# Altium footprint library con-3m.PCBLIB: 62 footprints (part 5 of 5)
Each footprint in its own frame and in the unit in brackets; x right, y up, seen from the top. Pads: shape width x height; smd on the part's side, far side on the other; paste and mask are expansions set on the pad; w line width, h text height; cw(c..) or ccw(c..) is an arc to the next point about the centre after c.
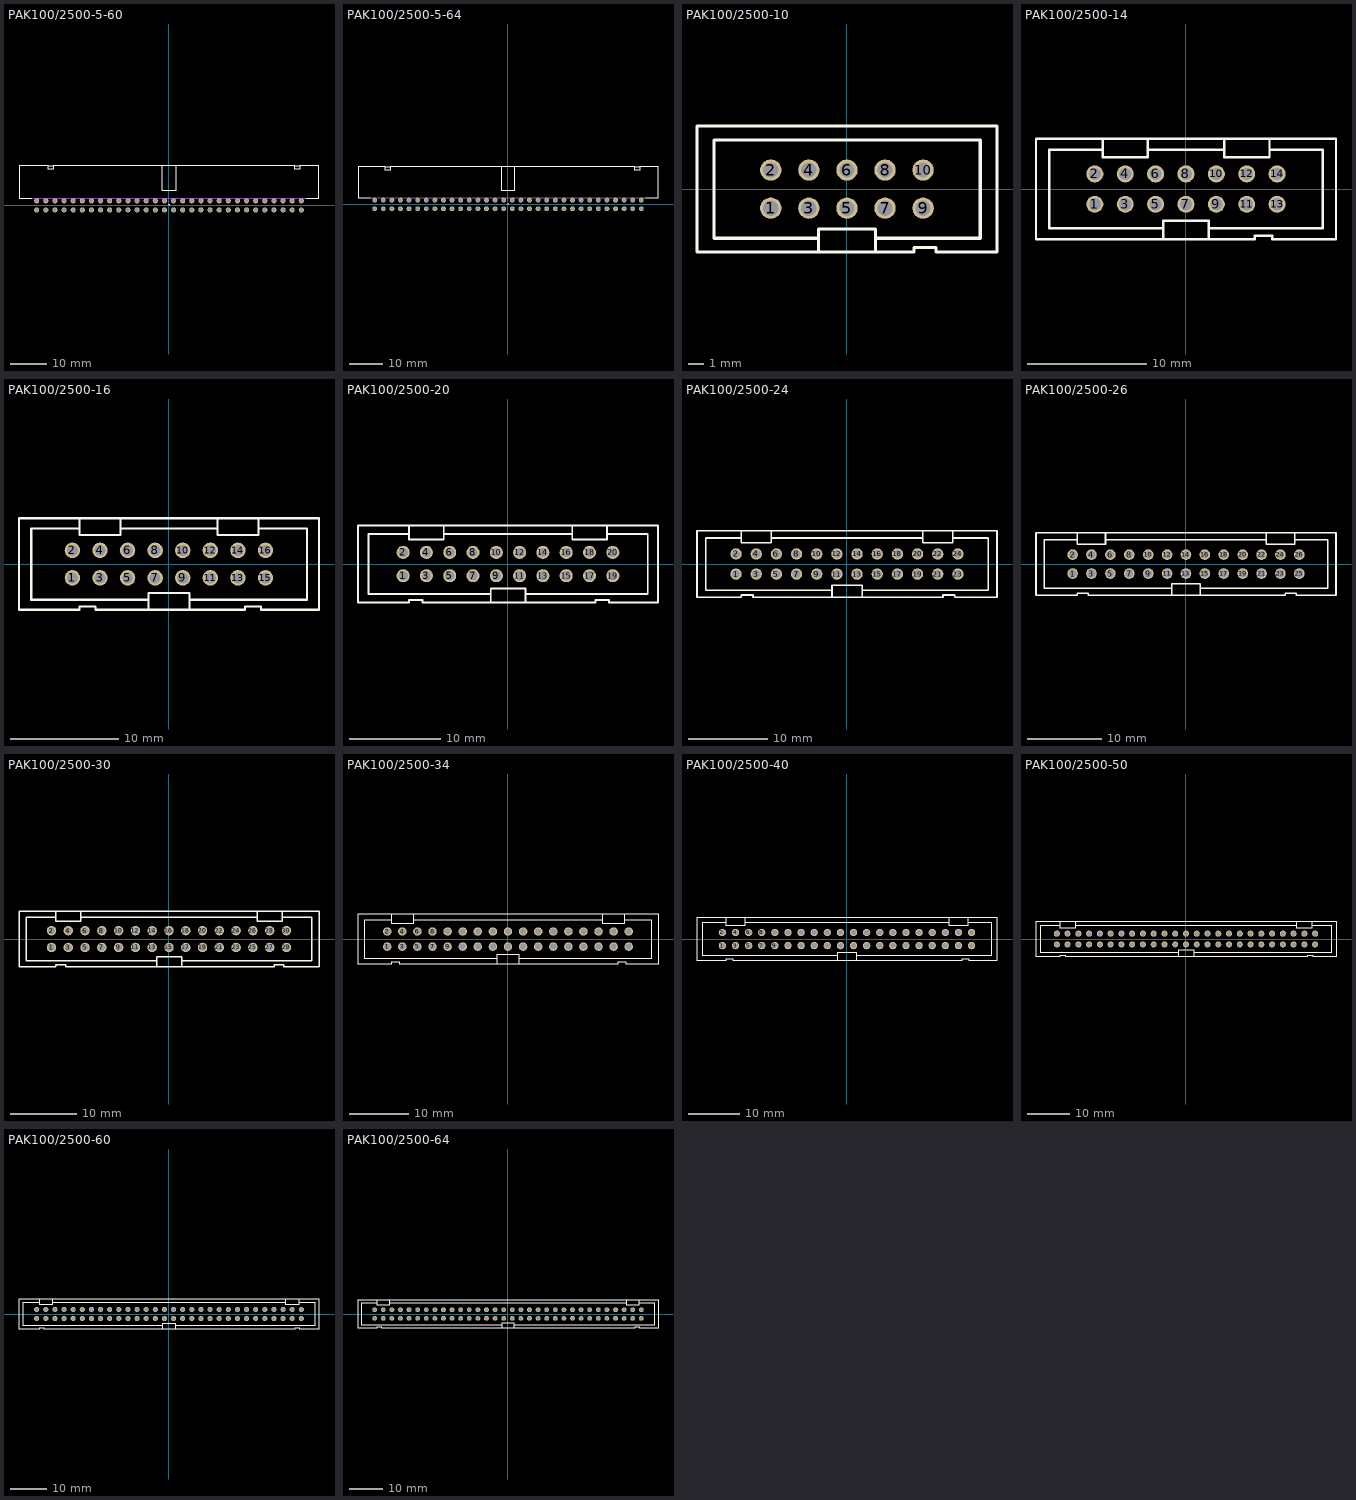
[diagram p4: the footprints below, top view; thin cyan lines are the x and y axes]

## PAK100/2500-5-60 [mil]
pads (60):
  round 56 hole 40: 1(-1450,-50) 2(-1450,50) 3(-1350,-50) 4(-1350,50) 5(-1250,-50) 6(-1250,50) 7(-1150,-50) 8(-1150,50) 9(-1050,-50) 10(-1050,50) 11(-950,-50) 12(-950,50) 13(-850,-50) 14(-850,50) 15(-750,-50) 16(-750,50) 17(-650,-50) 18(-650,50) 19(-550,-50) 20(-550,50) 21(-450,-50) 22(-450,50) 23(-350,-50) 24(-350,50) 25(-250,-50) 26(-250,50) 27(-150,-50) 28(-150,50) 29(-50,-50) 30(-50,50) 31(50,-50) 32(50,50) 33(150,-50) 34(150,50) 35(250,-50) 36(250,50) 37(350,-50) 38(350,50) 39(450,-50) 40(450,50) 41(550,-50) 42(550,50) 43(650,-50) 44(650,50) 45(750,-50) 46(750,50) 47(850,-50) 48(850,50) 49(950,-50) 50(950,50) 51(1050,-50) 52(1050,50) 53(1150,-50) 54(1150,50) 55(1250,-50) 56(1250,50) 57(1350,-50) 58(1350,50) 59(1450,-50) 60(1450,50)
Top Overlay:
  region: 0,0 10,0 10,10 0,10
  lines w8: -1504.17,74 -1643.7,74 -1643.7,437 -1324.45,437 ; 1504,74 1644,74 1644,437 1434,437 ; -1324.45,437 -1266.22,437 ; -1324.45,437 -1324.45,398 -1266.22,398 -1266.22,437 ; -1266.22,437 -74.13,437 ; -74.13,437 -74.13,158 75,158 75,437 ; -74.13,437 75,437 ; 75,437 1376,437 ; 1376,437 1434,437 ; 1376,437 1376,398 1434,398 1434,437
Mechanical 16:
  lines w8: -1504.02,74 1504,74

## PAK100/2500-5-64 [mil]
pads (64):
  round 56 hole 40: 1(-1550,-50) 2(-1550,50) 3(-1450,-50) 4(-1450,50) 5(-1350,-50) 6(-1350,50) 7(-1250,-50) 8(-1250,50) 9(-1150,-50) 10(-1150,50) 11(-1050,-50) 12(-1050,50) 13(-950,-50) 14(-950,50) 15(-850,-50) 16(-850,50) 17(-750,-50) 18(-750,50) 19(-650,-50) 20(-650,50) 21(-550,-50) 22(-550,50) 23(-450,-50) 24(-450,50) 25(-350,-50) 26(-350,50) 27(-250,-50) 28(-250,50) 29(-150,-50) 30(-150,50) 31(-50,-50) 32(-50,50) 33(50,-50) 34(50,50) 35(150,-50) 36(150,50) 37(250,-50) 38(250,50) 39(350,-50) 40(350,50) 41(450,-50) 42(450,50) 43(550,-50) 44(550,50) 45(650,-50) 46(650,50) 47(750,-50) 48(750,50) 49(850,-50) 50(850,50) 51(950,-50) 52(950,50) 53(1050,-50) 54(1050,50) 55(1150,-50) 56(1150,50) 57(1250,-50) 58(1250,50) 59(1350,-50) 60(1350,50) 61(1450,-50) 62(1450,50) 63(1550,-50) 64(1550,50)
Top Overlay:
  region: 0,0 10,0 10,10 0,10
  lines w8: -1604.17,74 -1743.7,74 -1743.7,437 -1424.45,437 ; 1604,74 1744,74 1744,437 1534,437 ; -1424.45,437 -1366.22,437 ; -1424.45,437 -1424.45,398 -1366.22,398 -1366.22,437 ; -1366.22,437 -74.13,437 ; -74.13,437 -74.13,158 75,158 75,437 ; -74.13,437 75,437 ; 75,437 1476,437 ; 1476,437 1534,437 ; 1476,437 1476,398 1534,398 1534,437
Mechanical 16:
  lines w8: -1604.02,74 1604,74

## PAK100/2500-10 [mil]
pads (10):
  round 56 hole 40: 1(-200,-50) 2(-200,50) 3(-100,-50) 4(-100,50) 5(0,-50) 6(0,50) 7(100,-50) 8(100,50) 9(200,-50) 10(200,50)
Top Overlay:
  lines w8: -74.13,-128.94 -349.41,-128.94 -349.41,129 350,129 350,-128.94 75,-128.94 ; -74.13,-165.35 -74.13,-104.33 75,-104.33 75,-165.35 ; -74.13,-165.35 75,-165.35 ; -74.13,-165.35 -393.7,-165.35 -393.7,166 394,166 394,-165.35 234,-165.35 234,-153.54 176,-153.54 176,-165.35 75,-165.35

## PAK100/2500-14 [mil]
pads (14):
  round 56 hole 40: 1(-300,-50) 2(-300,50) 3(-200,-50) 4(-200,50) 5(-100,-50) 6(-100,50) 7(0,-50) 8(0,50) 9(100,-50) 10(100,50) 11(200,-50) 12(200,50) 13(300,-50) 14(300,50)
Top Overlay:
  lines w8: -274.41,129 -449.41,129 -449.41,-128.94 -74.13,-128.94 ; -125.79,129 126,129 ; 75,-128.94 450,-128.94 450,129 275,129 ; -274.13,166 -493.7,166 -493.7,-165.35 -74.13,-165.35 ; -274.13,166 -125.87,166 ; -274.13,166 -274.13,105 -125.87,105 -125.87,166 ; -125.87,166 126,166 ; -74.13,-165.35 -74.13,-104.33 75,-104.33 75,-165.35 ; -74.13,-165.35 75,-165.35 ; 75,-165.35 226,-165.35 226,-153.54 284,-153.54 284,-165.35 494,-165.35 494,166 275,166 ; 126,166 275,166 ; 126,166 126,105 275,105 275,166

## PAK100/2500-16 [mil]
pads (16):
  round 56 hole 40: 1(-350,-50) 2(-350,50) 3(-250,-50) 4(-250,50) 5(-150,-50) 6(-150,50) 7(-50,-50) 8(-50,50) 9(50,-50) 10(50,50) 11(150,-50) 12(150,50) 13(250,-50) 14(250,50) 15(350,-50) 16(350,50)
Top Overlay:
  lines w8: -324.41,129 -499.41,129 -499.41,-128.94 -74.13,-128.94 ; -175.79,129 176,129 ; 75,-128.94 500,-128.94 500,129 325,129 ; -324.13,166 -543.7,166 -543.7,-165.35 -324.45,-165.35 -324.45,-153.54 -266.22,-153.54 -266.22,-165.35 -74.13,-165.35 ; -324.13,166 -175.87,166 ; -324.13,166 -324.13,105 -175.87,105 -175.87,166 ; -175.87,166 176,166 ; -74.13,-165.35 -74.13,-104.33 75,-104.33 75,-165.35 ; -74.13,-165.35 75,-165.35 ; 75,-165.35 276,-165.35 276,-153.54 334,-153.54 334,-165.35 544,-165.35 544,166 325,166 ; 176,166 325,166 ; 176,166 176,105 325,105 325,166

## PAK100/2500-20 [mil]
pads (20):
  round 56 hole 40: 1(-450,-50) 2(-450,50) 3(-350,-50) 4(-350,50) 5(-250,-50) 6(-250,50) 7(-150,-50) 8(-150,50) 9(-50,-50) 10(-50,50) 11(50,-50) 12(50,50) 13(150,-50) 14(150,50) 15(250,-50) 16(250,50) 17(350,-50) 18(350,50) 19(450,-50) 20(450,50)
Top Overlay:
  lines w8: -424.41,129 -599.41,129 -599.41,-128.94 -74.13,-128.94 ; -275.79,129 276,129 ; 75,-128.94 600,-128.94 600,129 425,129 ; -424.13,166 -643.7,166 -643.7,-165.35 -424.45,-165.35 -424.45,-153.54 -366.22,-153.54 -366.22,-165.35 -74.13,-165.35 ; -424.13,166 -275.87,166 ; -424.13,166 -424.13,105 -275.87,105 -275.87,166 ; -275.87,166 276,166 ; -74.13,-165.35 -74.13,-104.33 75,-104.33 75,-165.35 ; -74.13,-165.35 75,-165.35 ; 75,-165.35 376,-165.35 376,-153.54 434,-153.54 434,-165.35 644,-165.35 644,166 425,166 ; 276,166 425,166 ; 276,166 276,105 425,105 425,166

## PAK100/2500-24 [mil]
pads (24):
  round 56 hole 40: 1(-550,-50) 2(-550,50) 3(-450,-50) 4(-450,50) 5(-350,-50) 6(-350,50) 7(-250,-50) 8(-250,50) 9(-150,-50) 10(-150,50) 11(-50,-50) 12(-50,50) 13(50,-50) 14(50,50) 15(150,-50) 16(150,50) 17(250,-50) 18(250,50) 19(350,-50) 20(350,50) 21(450,-50) 22(450,50) 23(550,-50) 24(550,50)
Top Overlay:
  lines w8: -524.41,129 -699.41,129 -699.41,-128.94 -74.13,-128.94 ; -375.79,129 376,129 ; 75,-128.94 700,-128.94 700,129 525,129 ; -524.13,166 -743.7,166 -743.7,-165.35 -524.45,-165.35 -524.45,-153.54 -466.22,-153.54 -466.22,-165.35 -74.13,-165.35 ; -524.13,166 -375.87,166 ; -524.13,166 -524.13,105 -375.87,105 -375.87,166 ; -375.87,166 376,166 ; -74.13,-165.35 -74.13,-104.33 75,-104.33 75,-165.35 ; -74.13,-165.35 75,-165.35 ; 75,-165.35 476,-165.35 476,-153.54 534,-153.54 534,-165.35 744,-165.35 744,166 525,166 ; 376,166 525,166 ; 376,166 376,105 525,105 525,166

## PAK100/2500-26 [mil]
pads (26):
  round 56 hole 40: 1(-600,-50) 2(-600,50) 3(-500,-50) 4(-500,50) 5(-400,-50) 6(-400,50) 7(-300,-50) 8(-300,50) 9(-200,-50) 10(-200,50) 11(-100,-50) 12(-100,50) 13(0,-50) 14(0,50) 15(100,-50) 16(100,50) 17(200,-50) 18(200,50) 19(300,-50) 20(300,50) 21(400,-50) 22(400,50) 23(500,-50) 24(500,50) 25(600,-50) 26(600,50)
Top Overlay:
  lines w8: -574.41,129 -749.41,129 -749.41,-128.94 -74.13,-128.94 ; -425.79,129 426,129 ; 75,-128.94 750,-128.94 750,129 575,129 ; -574.13,166 -793.7,166 -793.7,-165.35 -574.45,-165.35 -574.45,-153.54 -516.22,-153.54 -516.22,-165.35 -74.13,-165.35 ; -574.13,166 -425.87,166 ; -574.13,166 -574.13,105 -425.87,105 -425.87,166 ; -425.87,166 426,166 ; -74.13,-165.35 -74.13,-104.33 75,-104.33 75,-165.35 ; -74.13,-165.35 75,-165.35 ; 75,-165.35 526,-165.35 526,-153.54 584,-153.54 584,-165.35 794,-165.35 794,166 575,166 ; 426,166 575,166 ; 426,166 426,105 575,105 575,166

## PAK100/2500-30 [mil]
pads (30):
  round 56 hole 40: 1(-700,-50) 2(-700,50) 3(-600,-50) 4(-600,50) 5(-500,-50) 6(-500,50) 7(-400,-50) 8(-400,50) 9(-300,-50) 10(-300,50) 11(-200,-50) 12(-200,50) 13(-100,-50) 14(-100,50) 15(0,-50) 16(0,50) 17(100,-50) 18(100,50) 19(200,-50) 20(200,50) 21(300,-50) 22(300,50) 23(400,-50) 24(400,50) 25(500,-50) 26(500,50) 27(600,-50) 28(600,50) 29(700,-50) 30(700,50)
Top Overlay:
  lines w8: -674.41,129 -849.41,129 -849.41,-128.94 -74.13,-128.94 ; -525.79,129 526,129 ; 75,-128.94 850,-128.94 850,129 675,129 ; -674.13,166 -893.7,166 -893.7,-165.35 -674.45,-165.35 -674.45,-153.54 -616.22,-153.54 -616.22,-165.35 -74.13,-165.35 ; -674.13,166 -525.87,166 ; -674.13,166 -674.13,105 -525.87,105 -525.87,166 ; -525.87,166 526,166 ; -74.13,-165.35 -74.13,-104.33 75,-104.33 75,-165.35 ; -74.13,-165.35 75,-165.35 ; 75,-165.35 626,-165.35 626,-153.54 684,-153.54 684,-165.35 894,-165.35 894,166 675,166 ; 526,166 675,166 ; 526,166 526,105 675,105 675,166

## PAK100/2500-34 [mil]
pads (34):
  round 56 hole 40: 1(-800,-50) 2(-800,50) 3(-700,-50) 4(-700,50) 5(-600,-50) 6(-600,50) 7(-500,-50) 8(-500,50) 9(-400,-50) 10(-400,50) 11(-300,-50) 12(-300,50) 13(-200,-50) 14(-200,50) 15(-100,-50) 16(-100,50) 17(0,-50) 18(0,50) 19(100,-50) 20(100,50) 21(200,-50) 22(200,50) 23(300,-50) 24(300,50) 25(400,-50) 26(400,50) 27(500,-50) 28(500,50) 29(600,-50) 30(600,50) 31(700,-50) 32(700,50) 33(800,-50) 34(800,50)
Top Overlay:
  lines w8: -774.41,129 -949.41,129 -949.41,-128.94 -74.13,-128.94 ; -625.79,129 626,129 ; 75,-128.94 950,-128.94 950,129 775,129 ; -774.13,166 -993.7,166 -993.7,-165.35 -774.45,-165.35 -774.45,-153.54 -716.22,-153.54 -716.22,-165.35 -74.13,-165.35 ; -774.13,166 -625.87,166 ; -774.13,166 -774.13,105 -625.87,105 -625.87,166 ; -625.87,166 626,166 ; -74.13,-165.35 -74.13,-104.33 75,-104.33 75,-165.35 ; -74.13,-165.35 75,-165.35 ; 75,-165.35 726,-165.35 726,-153.54 784,-153.54 784,-165.35 994,-165.35 994,166 775,166 ; 626,166 775,166 ; 626,166 626,105 775,105 775,166

## PAK100/2500-40 [mil]
pads (40):
  round 56 hole 40: 1(-950,-50) 2(-950,50) 3(-850,-50) 4(-850,50) 5(-750,-50) 6(-750,50) 7(-650,-50) 8(-650,50) 9(-550,-50) 10(-550,50) 11(-450,-50) 12(-450,50) 13(-350,-50) 14(-350,50) 15(-250,-50) 16(-250,50) 17(-150,-50) 18(-150,50) 19(-50,-50) 20(-50,50) 21(50,-50) 22(50,50) 23(150,-50) 24(150,50) 25(250,-50) 26(250,50) 27(350,-50) 28(350,50) 29(450,-50) 30(450,50) 31(550,-50) 32(550,50) 33(650,-50) 34(650,50) 35(750,-50) 36(750,50) 37(850,-50) 38(850,50) 39(950,-50) 40(950,50)
Top Overlay:
  lines w8: -924.41,129 -1099.41,129 -1099.41,-128.94 -74.13,-128.94 ; -775.79,129 776,129 ; 75,-128.94 1100,-128.94 1100,129 925,129 ; -924.13,166 -1143.7,166 -1143.7,-165.35 -924.45,-165.35 -924.45,-153.54 -866.22,-153.54 -866.22,-165.35 -74.13,-165.35 ; -924.13,166 -775.87,166 ; -924.13,166 -924.13,105 -775.87,105 -775.87,166 ; -775.87,166 776,166 ; -74.13,-165.35 -74.13,-104.33 75,-104.33 75,-165.35 ; -74.13,-165.35 75,-165.35 ; 75,-165.35 876,-165.35 876,-153.54 934,-153.54 934,-165.35 1144,-165.35 1144,166 925,166 ; 776,166 925,166 ; 776,166 776,105 925,105 925,166

## PAK100/2500-50 [mil]
pads (50):
  round 56 hole 40: 1(-1200,-50) 2(-1200,50) 3(-1100,-50) 4(-1100,50) 5(-1000,-50) 6(-1000,50) 7(-900,-50) 8(-900,50) 9(-800,-50) 10(-800,50) 11(-700,-50) 12(-700,50) 13(-600,-50) 14(-600,50) 15(-500,-50) 16(-500,50) 17(-400,-50) 18(-400,50) 19(-300,-50) 20(-300,50) 21(-200,-50) 22(-200,50) 23(-100,-50) 24(-100,50) 25(0,-50) 26(0,50) 27(100,-50) 28(100,50) 29(200,-50) 30(200,50) 31(300,-50) 32(300,50) 33(400,-50) 34(400,50) 35(500,-50) 36(500,50) 37(600,-50) 38(600,50) 39(700,-50) 40(700,50) 41(800,-50) 42(800,50) 43(900,-50) 44(900,50) 45(1000,-50) 46(1000,50) 47(1100,-50) 48(1100,50) 49(1200,-50) 50(1200,50)
Top Overlay:
  lines w8: -1174.41,129 -1349.41,129 -1349.41,-128.94 -74.13,-128.94 ; -1025.79,129 1026,129 ; 75,-128.94 1350,-128.94 1350,129 1175,129 ; -1174.13,166 -1393.7,166 -1393.7,-165.35 -1174.45,-165.35 -1174.45,-153.54 -1116.22,-153.54 -1116.22,-165.35 -74.13,-165.35 ; -1174.13,166 -1025.87,166 ; -1174.13,166 -1174.13,105 -1025.87,105 -1025.87,166 ; -1025.87,166 1026,166 ; -74.13,-165.35 -74.13,-104.33 75,-104.33 75,-165.35 ; -74.13,-165.35 75,-165.35 ; 75,-165.35 1126,-165.35 1126,-153.54 1184,-153.54 1184,-165.35 1394,-165.35 1394,166 1175,166 ; 1026,166 1175,166 ; 1026,166 1026,105 1175,105 1175,166

## PAK100/2500-60 [mil]
pads (60):
  round 56 hole 40: 1(-1450,-50) 2(-1450,50) 3(-1350,-50) 4(-1350,50) 5(-1250,-50) 6(-1250,50) 7(-1150,-50) 8(-1150,50) 9(-1050,-50) 10(-1050,50) 11(-950,-50) 12(-950,50) 13(-850,-50) 14(-850,50) 15(-750,-50) 16(-750,50) 17(-650,-50) 18(-650,50) 19(-550,-50) 20(-550,50) 21(-450,-50) 22(-450,50) 23(-350,-50) 24(-350,50) 25(-250,-50) 26(-250,50) 27(-150,-50) 28(-150,50) 29(-50,-50) 30(-50,50) 31(50,-50) 32(50,50) 33(150,-50) 34(150,50) 35(250,-50) 36(250,50) 37(350,-50) 38(350,50) 39(450,-50) 40(450,50) 41(550,-50) 42(550,50) 43(650,-50) 44(650,50) 45(750,-50) 46(750,50) 47(850,-50) 48(850,50) 49(950,-50) 50(950,50) 51(1050,-50) 52(1050,50) 53(1150,-50) 54(1150,50) 55(1250,-50) 56(1250,50) 57(1350,-50) 58(1350,50) 59(1450,-50) 60(1450,50)
Top Overlay:
  lines w8: -1424.41,129 -1599.41,129 -1599.41,-128.94 -74.13,-128.94 ; -1275.79,129 1276,129 ; 75,-128.94 1600,-128.94 1600,129 1425,129 ; -1424.13,166 -1643.7,166 -1643.7,-165.35 -1424.45,-165.35 -1424.45,-153.54 -1366.22,-153.54 -1366.22,-165.35 -74.13,-165.35 ; -1424.13,166 -1275.87,166 ; -1424.13,166 -1424.13,105 -1275.87,105 -1275.87,166 ; -1275.87,166 1276,166 ; -74.13,-165.35 -74.13,-104.33 75,-104.33 75,-165.35 ; -74.13,-165.35 75,-165.35 ; 75,-165.35 1376,-165.35 1376,-153.54 1434,-153.54 1434,-165.35 1644,-165.35 1644,166 1425,166 ; 1276,166 1425,166 ; 1276,166 1276,105 1425,105 1425,166

## PAK100/2500-64 [mil]
pads (64):
  round 56 hole 40: 1(-1550,-50) 2(-1550,50) 3(-1450,-50) 4(-1450,50) 5(-1350,-50) 6(-1350,50) 7(-1250,-50) 8(-1250,50) 9(-1150,-50) 10(-1150,50) 11(-1050,-50) 12(-1050,50) 13(-950,-50) 14(-950,50) 15(-850,-50) 16(-850,50) 17(-750,-50) 18(-750,50) 19(-650,-50) 20(-650,50) 21(-550,-50) 22(-550,50) 23(-450,-50) 24(-450,50) 25(-350,-50) 26(-350,50) 27(-250,-50) 28(-250,50) 29(-150,-50) 30(-150,50) 31(-50,-50) 32(-50,50) 33(50,-50) 34(50,50) 35(150,-50) 36(150,50) 37(250,-50) 38(250,50) 39(350,-50) 40(350,50) 41(450,-50) 42(450,50) 43(550,-50) 44(550,50) 45(650,-50) 46(650,50) 47(750,-50) 48(750,50) 49(850,-50) 50(850,50) 51(950,-50) 52(950,50) 53(1050,-50) 54(1050,50) 55(1150,-50) 56(1150,50) 57(1250,-50) 58(1250,50) 59(1350,-50) 60(1350,50) 61(1450,-50) 62(1450,50) 63(1550,-50) 64(1550,50)
Top Overlay:
  lines w8: -1524.41,129 -1699.41,129 -1699.41,-128.94 -74.13,-128.94 ; -1375.79,129 1376,129 ; 75,-128.94 1700,-128.94 1700,129 1525,129 ; -1524.13,166 -1743.7,166 -1743.7,-165.35 -1524.45,-165.35 -1524.45,-153.54 -1466.22,-153.54 -1466.22,-165.35 -74.13,-165.35 ; -1524.13,166 -1375.87,166 ; -1524.13,166 -1524.13,105 -1375.87,105 -1375.87,166 ; -1375.87,166 1376,166 ; -74.13,-165.35 -74.13,-104.33 75,-104.33 75,-165.35 ; -74.13,-165.35 75,-165.35 ; 75,-165.35 1476,-165.35 1476,-153.54 1534,-153.54 1534,-165.35 1744,-165.35 1744,166 1525,166 ; 1376,166 1525,166 ; 1376,166 1376,105 1525,105 1525,166